# EAGLE library part AM7968D (library my_relai)
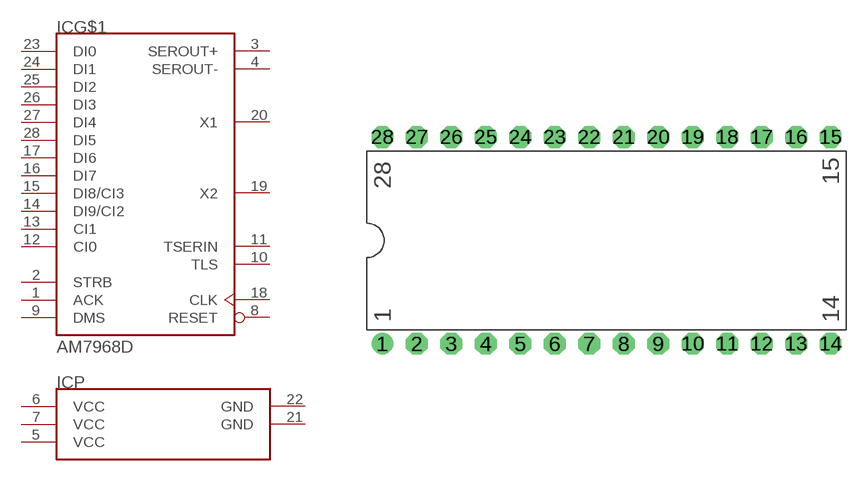
[diagram p30: symbol with the pads of DIP28-6; footprint DIP28-6]

Designator prefix IC; gates G$1=AM7968 P=AM7968DP

## AM7968D  [DIP28-6]
1  G$1:ACK  out
2  G$1:STRB  in
3  G$1:SEROUT+  out
4  G$1:SEROUT-  out
5  P:VCC  pwr
6  P:VCC  pwr
7  P:VCC  pwr
8  G$1:RESET  in
9  G$1:DMS  in
10  G$1:TLS  in
11  G$1:TSERIN  in
12  G$1:CI0  in
13  G$1:CI1  in
14  G$1:DI9/CI2  in
15  G$1:DI8/CI3  in
16  G$1:DI7  in
17  G$1:DI6  in
18  G$1:CLK  out
19  G$1:X2  in
20  G$1:X1  in
21  P:GND  pwr
22  P:GND  pwr
23  G$1:DI0  in
24  G$1:DI1  in
25  G$1:DI2  in
26  G$1:DI3  in
27  G$1:DI4  in
28  G$1:DI5  in

## Footprint DIP28-6 (pad centres in mm)
drill 0.406 pad 1.6: 1 -16.51,-7.62
drill 0.406 pad 1.6 octagon: 2 -13.97,-7.62; 3 -11.43,-7.62; 4 -8.89,-7.62; 5 -6.35,-7.62; 6 -3.81,-7.62; 7 -1.27,-7.62; 8 1.27,-7.62; 9 3.81,-7.62; 10 6.35,-7.62; 11 8.89,-7.62; 12 11.43,-7.62; 13 13.97,-7.62; 14 16.51,-7.62; 15 16.51,7.62; 16 13.97,7.62; 17 11.43,7.62; 18 8.89,7.62; 19 6.35,7.62; 20 3.81,7.62; 21 1.27,7.62; 22 -1.27,7.62; 23 -3.81,7.62; 24 -6.35,7.62; 25 -8.89,7.62; 26 -11.43,7.62; 27 -13.97,7.62; 28 -16.51,7.62